# EAGLE library part BOARD (library LexParts)
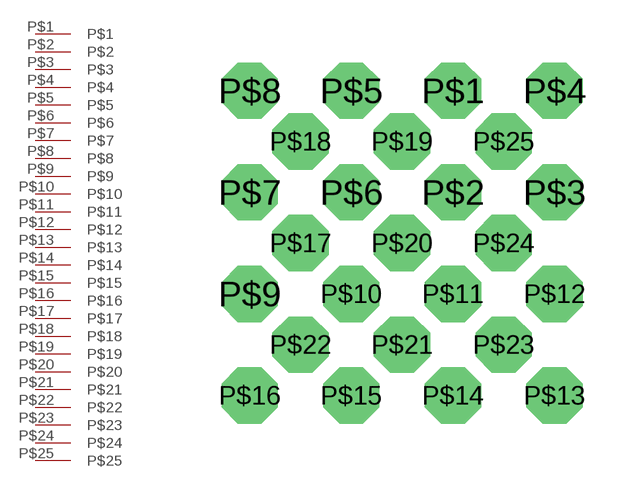
[diagram p1: symbol with the pads of BOARD; footprint BOARD]

Designator prefix -

## BOARD  [BOARD]
P$1  P$1
P$2  P$2
P$3  P$3
P$4  P$4
P$5  P$5
P$6  P$6
P$7  P$7
P$8  P$8
P$9  P$9
P$10  P$10
P$11  P$11
P$12  P$12
P$13  P$13
P$14  P$14
P$15  P$15
P$16  P$16
P$17  P$17
P$18  P$18
P$19  P$19
P$20  P$20
P$21  P$21
P$22  P$22
P$23  P$23
P$24  P$24
P$25  P$25

## Footprint BOARD (pad centres in mm)
drill 0.9 octagon: P$1 0,1.27; P$2 0,-1.27; P$3 2.54,-1.27; P$4 2.54,1.27; P$5 -2.54,1.27; P$6 -2.54,-1.27; P$7 -5.08,-1.27; P$8 -5.08,1.27; P$9 -5.08,-3.81; P$10 -2.54,-3.81; P$11 0,-3.81; P$12 2.54,-3.81; P$13 2.54,-6.35; P$14 0,-6.35; P$15 -2.54,-6.35; P$16 -5.08,-6.35; P$17 -3.81,-2.54; P$18 -3.81,0; P$19 -1.27,0; P$20 -1.27,-2.54; P$21 -1.27,-5.08; P$22 -3.81,-5.08; P$23 1.27,-5.08; P$24 1.27,-2.54; P$25 1.27,0